# EAGLE library part AD53X8 (library jack_IC)
8/10/12 bit, 2.5v to 5.5v, 8 channel DAC
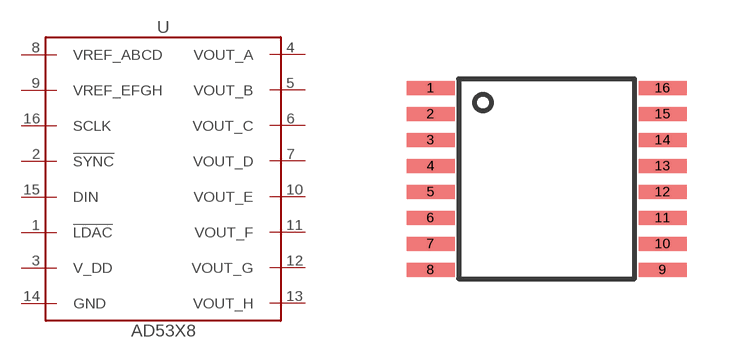
[diagram p9: symbol with the pads of TSSOP-16; footprint TSSOP-16]

Designator prefix U

## AD53X8  [TSSOP-16]
1  !LDAC
2  !SYNC
3  V_DD
4  VOUT_A
5  VOUT_B
6  VOUT_C
7  VOUT_D
8  VREF_ABCD
9  VREF_EFGH
10  VOUT_E
11  VOUT_F
12  VOUT_G
13  VOUT_H
14  GND
15  DIN
16  SCLK

## Footprint TSSOP-16 (pad centres in mm)
smd 1.2 x 0.35: 1 -2.9,2.275; 2 -2.9,1.625; 3 -2.9,0.975; 4 -2.9,0.325; 5 -2.9,-0.325; 6 -2.9,-0.975; 7 -2.9,-1.625; 8 -2.9,-2.275; 9 2.9,-2.275; 10 2.9,-1.625; 11 2.9,-0.975; 12 2.9,-0.325; 13 2.9,0.325; 14 2.9,0.975; 15 2.9,1.625; 16 2.9,2.275